# EAGLE library part AD9761 (library CougsInSpace-IC-Conversion)
AD9761 - Dual 10b DAC with interpolation filters
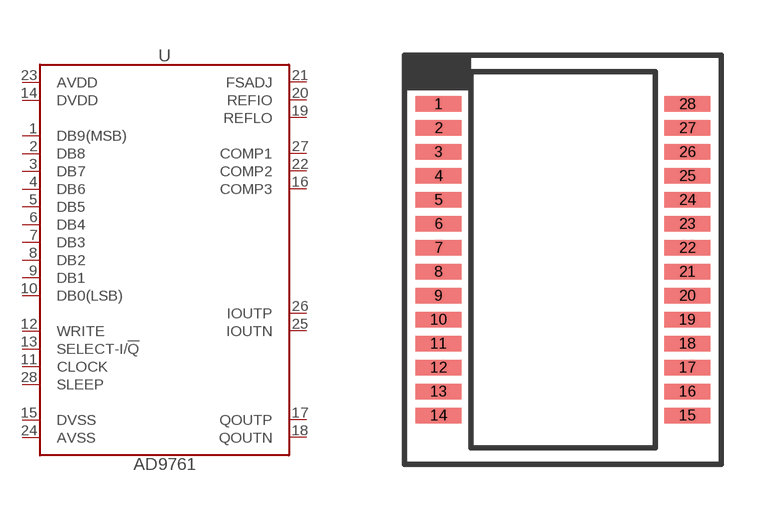
[diagram p5: symbol with the pads of SSOP-28; footprint SSOP-28]

Designator prefix U

## AD9761 (SKU: 27-0006; VALUE: AD9761)  [SSOP-28]
1  DB9(MSB)  in
2  DB8  in
3  DB7  in
4  DB6  in
5  DB5  in
6  DB4  in
7  DB3  in
8  DB2  in
9  DB1  in
10  DB0(LSB)  in
11  CLOCK  in
12  WRITE  in
13  SELECT-I/!Q  in
14  DVDD  pwr
15  DVSS  pwr
16  COMP3  pas
17  QOUTP  out
18  QOUTN  out
19  REFLO  pas
20  REFIO  pas
21  FSADJ  pas
22  COMP2  pas
23  AVDD  pwr
24  AVSS  pwr
25  IOUTN  out
26  IOUTP  out
27  COMP1  pas
28  SLEEP  in

## Footprint SSOP-28 (pad centres in mm)
Shrink Small Outline Package - 28 Pins
smd 1.25 x 0.42: 1 -3.375,4.225; 2 -3.375,3.575; 3 -3.375,2.925; 4 -3.375,2.275; 5 -3.375,1.625; 6 -3.375,0.975; 7 -3.375,0.325; 8 -3.375,-0.325; 9 -3.375,-0.975; 10 -3.375,-1.625; 11 -3.375,-2.275; 12 -3.375,-2.925; 13 -3.375,-3.575; 14 -3.375,-4.225; 15 3.375,-4.225; 16 3.375,-3.575; 17 3.375,-2.925; 18 3.375,-2.275; 19 3.375,-1.625; 20 3.375,-0.975; 21 3.375,-0.325; 22 3.375,0.325; 23 3.375,0.975; 24 3.375,1.625; 25 3.375,2.275; 26 3.375,2.925; 27 3.375,3.575; 28 3.375,4.225